# Altium footprint library Resistor_DIP.PcbLib: 69 footprints (part 5 of 5)
Each footprint in its own frame and in the unit in brackets; x right, y up, seen from the top. Pads: shape width x height; smd on the part's side, far side on the other; paste and mask are expansions set on the pad; w line width, h text height; cw(c..) or ccw(c..) is an arc to the next point about the centre after c.
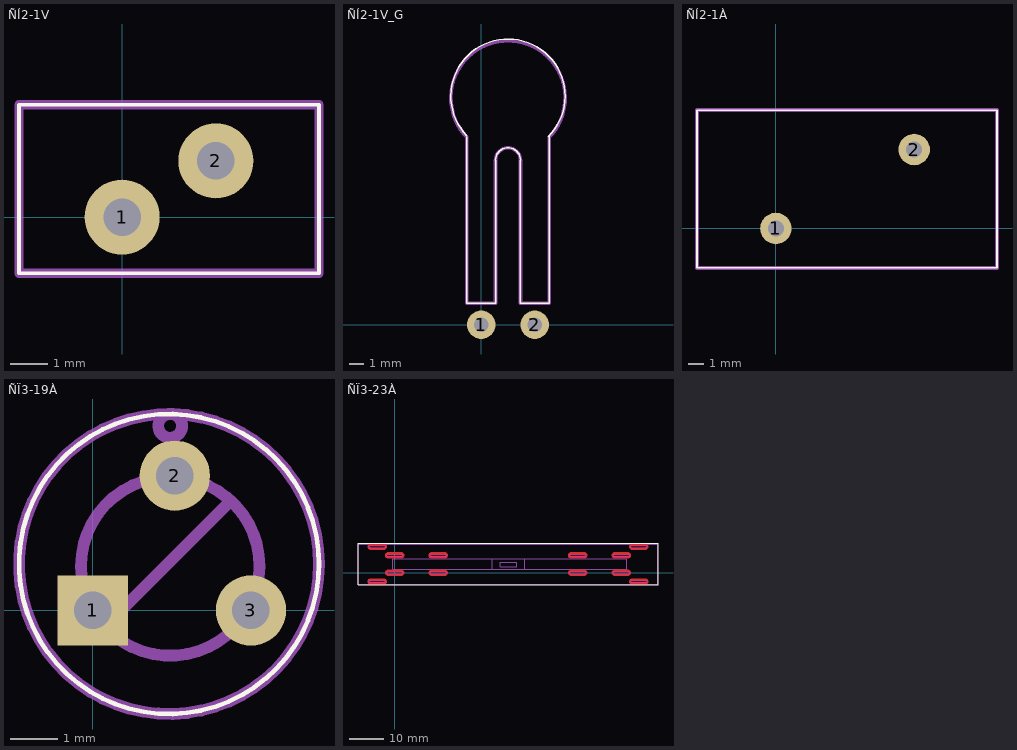
[diagram p4: the footprints below, top view; thin cyan lines are the x and y axes]

## ÑÍ2-1V [mm]
pads (2):
  round 2 hole 1: 1(0,0) 2(2.5,1.5)
Top Overlay:
  lines w0.1: -2.75,-1.5 5.25,-1.5 5.25,3 -2.75,3 -2.75,-1.5
Mechanical 1:
  lines w0.25: -2.75,-1.5 5.25,-1.5 5.25,3 -2.75,3 -2.75,-1.5

## ÑÍ2-1V_G [mm]
pads (2):
  round 2 hole 1: 1(0,0) 2(3.75,0)
Top Overlay:
  lines w0.1: -1.012,13.231 cw(c1.875,16) 4.703,13.172 ; -1,13.15 -1,1.5 1,1.5 1,11.5 ; 0.991,11.5 cw(c1.875,11.5) 2.759,11.5 ; 2.75,11.5 2.75,1.5 4.75,1.5 4.75,13.15
Mechanical 1:
  lines w0.25: -1.017,13.111 cw(c1.875,15.875) 4.767,13.111 ; -1,13.15 -1,1.5 1,1.5 1,11.5 ; 0.991,11.5 cw(c1.875,11.5) 2.759,11.5 ; 2.75,11.5 2.75,1.5 4.75,1.5 4.75,13.15

## ÑÍ2-1À [mm]
pads (2):
  round 2 hole 1: 1(0,0) 2(8.75,5)
Top Overlay:
  lines w0.1: -5,-2.5 14,-2.5 14,7.5 -5,7.5 -5,-2.5
Mechanical 1:
  lines w0.25: -5,-2.5 14,-2.5 14,7.5 -5,7.5 -5,-2.5

## ÑÏ3-19À [mm]
pads (3):
  rect 1.5x1.5 hole 0.8: 1(0,0)
  round 1.5 hole 0.8: 2(1.75,2.875) 3(3.375,0)
Top Overlay:
  circle w0.1: c1.626,0.991 r3.2
Mechanical 1:
  circle w0.25: c1.626,0.991 r3.2
  circle w0.25: c1.651,0.94 r1.905
  circle w0.25: c1.651,3.937 r0.254
  lines w0.25: 0.279,-0.33 2.946,2.337

## ÑÏ3-23À [mm]
pads (8):
  round 0.05 smd: 1(0,-0.5) 2(65,-0.5) 3(52.5,-0.5) 4(12.5,-0.5) 5(0,5.5) 6(65,5.5) 7(52.5,5.5) 8(12.5,5.5)
Top Layer:
  region: 68,7.75 72,7.75 72,8.35 68,8.35
  region: 68,6.65 72,6.65 72,7.25 68,7.25
  region: 68,-3.35 72,-3.35 72,-2.75 68,-2.75
  region: 68,-2.25 72,-2.25 72,-1.65 68,-1.65
  region: 63,4.15 67,4.15 67,4.75 63,4.75
  region: 63,5.25 67,5.25 67,5.85 63,5.85
  region: 63,0.25 67,0.25 67,0.85 63,0.85
  region: 63,-0.85 67,-0.85 67,-0.25 63,-0.25
  region: 10.55,4.75 10.45,4.75 10.4,4.75 10.35,4.75 10.25,4.85 10.25,4.95 10.25,5 9.75,5 9.8,4.7 10,4.4 10.35,4.15 10.55,4.15
  region: 10.55,5.85 10.35,5.85 10,5.6 9.8,5.3 9.75,5 10.25,5 10.25,5.05 10.25,5.15 10.35,5.25 10.4,5.25 10.45,5.25 10.55,5.25
  region: 10.55,-0.25 10.45,-0.25 10.4,-0.25 10.35,-0.25 10.25,-0.15 10.25,-0.05 10.25,0 9.75,0 9.8,-0.3 10,-0.6 10.35,-0.85 10.55,-0.85
  region: 10.55,0.85 10.35,0.85 10,0.6 9.8,0.3 9.75,0 10.25,0 10.25,0.05 10.25,0.15 10.35,0.25 10.4,0.25 10.45,0.25 10.55,0.25
  region: 1.95,5.25 2.05,5.25 2.1,5.25 2.15,5.25 2.25,5.15 2.25,5.05 2.25,5 2.75,5 2.7,5.3 2.5,5.6 2.15,5.85 1.95,5.85
  region: 1.95,4.15 2.15,4.15 2.5,4.4 2.7,4.7 2.75,5 2.25,5 2.25,4.95 2.25,4.85 2.15,4.75 2.1,4.75 2.05,4.75 1.95,4.75
  region: -7,7.75 -3,7.75 -3,8.35 -7,8.35
  region: -7,6.65 -3,6.65 -3,7.25 -7,7.25
  region: 1.95,-0.85 2.15,-0.85 2.5,-0.6 2.7,-0.3 2.75,0 2.25,0 2.25,-0.05 2.25,-0.15 2.15,-0.25 2.1,-0.25 2.05,-0.25 1.95,-0.25
  region: 1.95,0.25 2.05,0.25 2.1,0.25 2.15,0.25 2.25,0.15 2.25,0.05 2.25,0 2.75,0 2.7,0.3 2.5,0.6 2.15,0.85 1.95,0.85
  region: -7,-3.35 -3,-3.35 -3,-2.75 -7,-2.75
  region: -7,-2.25 -3,-2.25 -3,-1.65 -7,-1.65
  region: 71.95,6.65 72.15,6.65 72.5,6.9 72.7,7.2 72.75,7.5 72.25,7.5 72.25,7.45 72.25,7.35 72.15,7.25 72.1,7.25 72.05,7.25 71.95,7.25
  region: 71.95,7.75 72.05,7.75 72.1,7.75 72.15,7.75 72.25,7.65 72.25,7.55 72.25,7.5 72.75,7.5 72.7,7.8 72.5,8.1 72.15,8.35 71.95,8.35
  region: 71.95,-2.25 72.05,-2.25 72.1,-2.25 72.15,-2.25 72.25,-2.35 72.25,-2.45 72.25,-2.5 72.75,-2.5 72.7,-2.2 72.5,-1.9 72.15,-1.65 71.95,-1.65
  region: 71.95,-3.35 72.15,-3.35 72.5,-3.1 72.7,-2.8 72.75,-2.5 72.25,-2.5 72.25,-2.55 72.25,-2.65 72.15,-2.75 72.1,-2.75 72.05,-2.75 71.95,-2.75
  region: 68.05,7.25 67.95,7.25 67.9,7.25 67.85,7.25 67.75,7.35 67.75,7.45 67.75,7.5 67.25,7.5 67.3,7.2 67.5,6.9 67.85,6.65 68.05,6.65
  region: 68.05,8.35 67.85,8.35 67.5,8.1 67.3,7.8 67.25,7.5 67.75,7.5 67.75,7.55 67.75,7.65 67.85,7.75 67.9,7.75 67.95,7.75 68.05,7.75
  region: 66.95,5.25 67.05,5.25 67.1,5.25 67.15,5.25 67.25,5.15 67.25,5.05 67.25,5 67.75,5 67.7,5.3 67.5,5.6 67.15,5.85 66.95,5.85
  region: 66.95,4.15 67.15,4.15 67.5,4.4 67.7,4.7 67.75,5 67.25,5 67.25,4.95 67.25,4.85 67.15,4.75 67.1,4.75 67.05,4.75 66.95,4.75
  region: 66.95,-0.85 67.15,-0.85 67.5,-0.6 67.7,-0.3 67.75,0 67.25,0 67.25,-0.05 67.25,-0.15 67.15,-0.25 67.1,-0.25 67.05,-0.25 66.95,-0.25
  region: 66.95,0.25 67.05,0.25 67.1,0.25 67.15,0.25 67.25,0.15 67.25,0.05 67.25,0 67.75,0 67.7,0.3 67.5,0.6 67.15,0.85 66.95,0.85
  region: 68.05,-2.75 67.95,-2.75 67.9,-2.75 67.85,-2.75 67.75,-2.65 67.75,-2.55 67.75,-2.5 67.25,-2.5 67.3,-2.8 67.5,-3.1 67.85,-3.35 68.05,-3.35
  region: 68.05,-1.65 67.85,-1.65 67.5,-1.9 67.3,-2.2 67.25,-2.5 67.75,-2.5 67.75,-2.45 67.75,-2.35 67.85,-2.25 67.9,-2.25 67.95,-2.25 68.05,-2.25
  region: 63.05,4.75 62.95,4.75 62.9,4.75 62.85,4.75 62.75,4.85 62.75,4.95 62.75,5 62.25,5 62.3,4.7 62.5,4.4 62.85,4.15 63.05,4.15
  region: 63.05,5.85 62.85,5.85 62.5,5.6 62.3,5.3 62.25,5 62.75,5 62.75,5.05 62.75,5.15 62.85,5.25 62.9,5.25 62.95,5.25 63.05,5.25
  region: 63.05,-0.25 62.95,-0.25 62.9,-0.25 62.85,-0.25 62.75,-0.15 62.75,-0.05 62.75,0 62.25,0 62.3,-0.3 62.5,-0.6 62.85,-0.85 63.05,-0.85
  region: 63.05,0.85 62.85,0.85 62.5,0.6 62.3,0.3 62.25,0 62.75,0 62.75,0.05 62.75,0.15 62.85,0.25 62.9,0.25 62.95,0.25 63.05,0.25
  region: 50.5,4.15 54.5,4.15 54.5,4.75 50.5,4.75
  region: 50.5,5.25 54.5,5.25 54.5,5.85 50.5,5.85
  region: 54.45,5.25 54.55,5.25 54.6,5.25 54.65,5.25 54.75,5.15 54.75,5.05 54.75,5 55.25,5 55.2,5.3 55,5.6 54.65,5.85 54.45,5.85
  region: 54.45,4.15 54.65,4.15 55,4.4 55.2,4.7 55.25,5 54.75,5 54.75,4.95 54.75,4.85 54.65,4.75 54.6,4.75 54.55,4.75 54.45,4.75
  region: 50.55,4.75 50.45,4.75 50.4,4.75 50.35,4.75 50.25,4.85 50.25,4.95 50.25,5 49.75,5 49.8,4.7 50,4.4 50.35,4.15 50.55,4.15
  region: 50.55,5.85 50.35,5.85 50,5.6 49.8,5.3 49.75,5 50.25,5 50.25,5.05 50.25,5.15 50.35,5.25 50.4,5.25 50.45,5.25 50.55,5.25
  region: 50.5,0.25 54.5,0.25 54.5,0.85 50.5,0.85
  region: 50.5,-0.85 54.5,-0.85 54.5,-0.25 50.5,-0.25
  region: 54.45,-0.85 54.65,-0.85 55,-0.6 55.2,-0.3 55.25,0 54.75,0 54.75,-0.05 54.75,-0.15 54.65,-0.25 54.6,-0.25 54.55,-0.25 54.45,-0.25
  region: 50.55,-0.25 50.45,-0.25 50.4,-0.25 50.35,-0.25 50.25,-0.15 50.25,-0.05 50.25,0 49.75,0 49.8,-0.3 50,-0.6 50.35,-0.85 50.55,-0.85
  region: 54.45,0.25 54.55,0.25 54.6,0.25 54.65,0.25 54.75,0.15 54.75,0.05 54.75,0 55.25,0 55.2,0.3 55,0.6 54.65,0.85 54.45,0.85
  region: 50.55,0.85 50.35,0.85 50,0.6 49.8,0.3 49.75,0 50.25,0 50.25,0.05 50.25,0.15 50.35,0.25 50.4,0.25 50.45,0.25 50.55,0.25
  region: 10.5,4.15 14.5,4.15 14.5,4.75 10.5,4.75
  region: 10.5,5.25 14.5,5.25 14.5,5.85 10.5,5.85
  region: 14.45,5.25 14.55,5.25 14.6,5.25 14.65,5.25 14.75,5.15 14.75,5.05 14.75,5 15.25,5 15.2,5.3 15,5.6 14.65,5.85 14.45,5.85
  region: 14.45,4.15 14.65,4.15 15,4.4 15.2,4.7 15.25,5 14.75,5 14.75,4.95 14.75,4.85 14.65,4.75 14.6,4.75 14.55,4.75 14.45,4.75
  region: 10.5,0.25 14.5,0.25 14.5,0.85 10.5,0.85
  region: 10.5,-0.85 14.5,-0.85 14.5,-0.25 10.5,-0.25
  region: 14.45,-0.85 14.65,-0.85 15,-0.6 15.2,-0.3 15.25,0 14.75,0 14.75,-0.05 14.75,-0.15 14.65,-0.25 14.6,-0.25 14.55,-0.25 14.45,-0.25
  region: 14.45,0.25 14.55,0.25 14.6,0.25 14.65,0.25 14.75,0.15 14.75,0.05 14.75,0 15.25,0 15.2,0.3 15,0.6 14.65,0.85 14.45,0.85
  region: -3.05,6.65 -2.85,6.65 -2.5,6.9 -2.3,7.2 -2.25,7.5 -2.75,7.5 -2.75,7.45 -2.75,7.35 -2.85,7.25 -2.9,7.25 -2.95,7.25 -3.05,7.25
  region: -3.05,7.75 -2.95,7.75 -2.9,7.75 -2.85,7.75 -2.75,7.65 -2.75,7.55 -2.75,7.5 -2.25,7.5 -2.3,7.8 -2.5,8.1 -2.85,8.35 -3.05,8.35
  region: -1.95,4.75 -2.05,4.75 -2.1,4.75 -2.15,4.75 -2.25,4.85 -2.25,4.95 -2.25,5 -2.75,5 -2.7,4.7 -2.5,4.4 -2.15,4.15 -1.95,4.15
  region: -1.95,5.85 -2.15,5.85 -2.5,5.6 -2.7,5.3 -2.75,5 -2.25,5 -2.25,5.05 -2.25,5.15 -2.15,5.25 -2.1,5.25 -2.05,5.25 -1.95,5.25
  region: -2,4.15 2,4.15 2,4.75 -2,4.75
  region: -2,5.25 2,5.25 2,5.85 -2,5.85
  region: -1.95,-0.25 -2.05,-0.25 -2.1,-0.25 -2.15,-0.25 -2.25,-0.15 -2.25,-0.05 -2.25,0 -2.75,0 -2.7,-0.3 -2.5,-0.6 -2.15,-0.85 -1.95,-0.85
  region: -1.95,0.85 -2.15,0.85 -2.5,0.6 -2.7,0.3 -2.75,0 -2.25,0 -2.25,0.05 -2.25,0.15 -2.15,0.25 -2.1,0.25 -2.05,0.25 -1.95,0.25
  region: -3.05,-2.25 -2.95,-2.25 -2.9,-2.25 -2.85,-2.25 -2.75,-2.35 -2.75,-2.45 -2.75,-2.5 -2.25,-2.5 -2.3,-2.2 -2.5,-1.9 -2.85,-1.65 -3.05,-1.65
  region: -3.05,-3.35 -2.85,-3.35 -2.5,-3.1 -2.3,-2.8 -2.25,-2.5 -2.75,-2.5 -2.75,-2.55 -2.75,-2.65 -2.85,-2.75 -2.9,-2.75 -2.95,-2.75 -3.05,-2.75
  region: -2,0.25 2,0.25 2,0.85 -2,0.85
  region: -2,-0.85 2,-0.85 2,-0.25 -2,-0.25
  region: -6.95,7.25 -7.05,7.25 -7.1,7.25 -7.15,7.25 -7.25,7.35 -7.25,7.45 -7.25,7.5 -7.75,7.5 -7.7,7.2 -7.5,6.9 -7.15,6.65 -6.95,6.65
  region: -6.95,8.35 -7.15,8.35 -7.5,8.1 -7.7,7.8 -7.75,7.5 -7.25,7.5 -7.25,7.55 -7.25,7.65 -7.15,7.75 -7.1,7.75 -7.05,7.75 -6.95,7.75
  region: -6.95,-2.75 -7.05,-2.75 -7.1,-2.75 -7.15,-2.75 -7.25,-2.65 -7.25,-2.55 -7.25,-2.5 -7.75,-2.5 -7.7,-2.8 -7.5,-3.1 -7.15,-3.35 -6.95,-3.35
  region: -6.95,-1.65 -7.15,-1.65 -7.5,-1.9 -7.7,-2.2 -7.75,-2.5 -7.25,-2.5 -7.25,-2.45 -7.25,-2.35 -7.15,-2.25 -7.1,-2.25 -7.05,-2.25 -6.95,-2.25
Top Overlay:
  lines w0.1: -10.48,-3.46 75.52,-3.46 75.52,8.54 -10.48,8.54 -10.48,-3.46
Top Solder:
  drawing of 72 lines, arcs and shapes, not listed
Keep-Out Layer:
  lines w0.25: -7,-2.75 cw(c-7,-2.5) -7,-2.25 -3,-2.25 cw(c-3,-2.5) -3,-2.75 -7,-2.75 ; -7,7.25 cw(c-7,7.5) -7,7.75 -3,7.75 cw(c-3,7.5) -3,7.25 -7,7.25 ; -2,-0.25 cw(c-2,0) -2,0.25 2,0.25 cw(c2,0) 2,-0.25 -2,-0.25 ; -2,4.75 cw(c-2,5) -2,5.25 2,5.25 cw(c2,5) 2,4.75 -2,4.75 ; 10.5,-0.25 cw(c10.5,0) 10.5,0.25 14.5,0.25 cw(c14.5,0) 14.5,-0.25 10.5,-0.25 ; 10.5,4.75 cw(c10.5,5) 10.5,5.25 14.5,5.25 cw(c14.5,5) 14.5,4.75 10.5,4.75 ; 50.5,-0.25 cw(c50.5,0) 50.5,0.25 54.5,0.25 cw(c54.5,0) 54.5,-0.25 50.5,-0.25 ; 50.5,4.75 cw(c50.5,5) 50.5,5.25 54.5,5.25 cw(c54.5,5) 54.5,4.75 50.5,4.75 ; 63,-0.25 cw(c63,0) 63,0.25 67,0.25 cw(c67,0) 67,-0.25 63,-0.25 ; 63,4.75 cw(c63,5) 63,5.25 67,5.25 cw(c67,5) 67,4.75 63,4.75 ; 68,-2.75 cw(c68,-2.5) 68,-2.25 72,-2.25 cw(c72,-2.5) 72,-2.75 68,-2.75 ; 68,7.25 cw(c68,7.5) 68,7.75 72,7.75 cw(c72,7.5) 72,7.25 68,7.25
Mechanical 1:
  lines w0.25: 28,1 28,4 ; 37.25,1 37.25,4 ; -10.5,-3.25 75.5,-3.25 75.5,8.25 -10.5,8.25 -10.5,-3.25 ; -0.5,1 66.5,1 66.5,4 -0.5,4 -0.5,1 ; 30.25,1.75 35,1.75 35,3 30.25,3 30.25,1.75